# Altium schematic symbol library RES_WSKJ.SchLib: 123 symbols
Pins are listed as number, name and electrical type; pins without a type are passive.

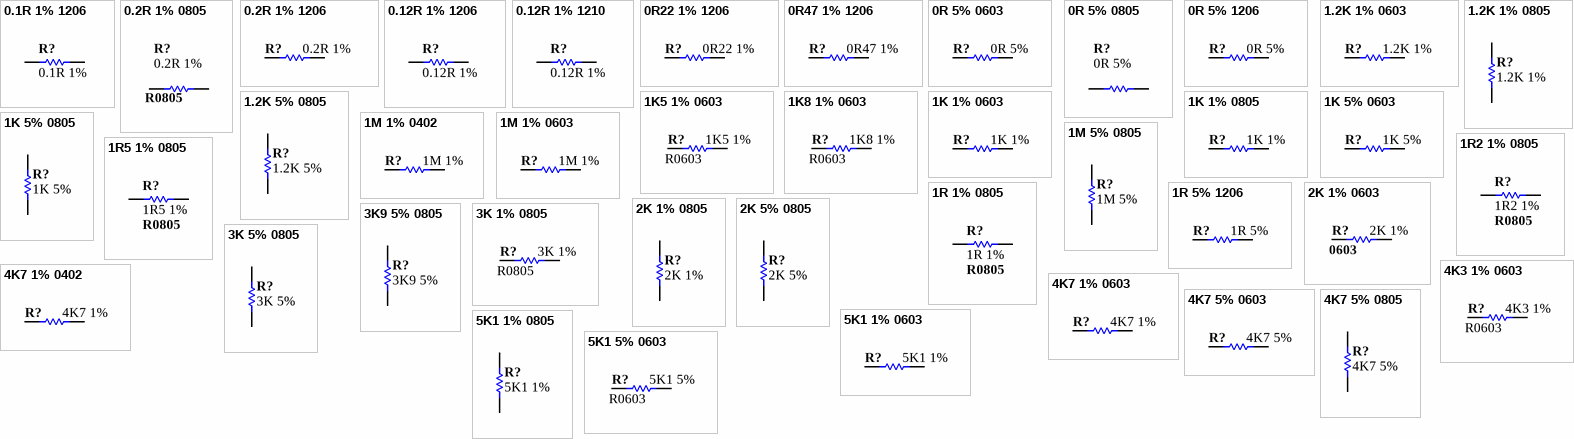
[diagram p0: symbols 0.1R 1% 1206 to 5K1 5% 0603]

## 0.1R 1% 1206
designator R?, comment 0.1R 1%
Resistor, 0.1R 1% 1206 (3216); Power Rating: 63 mW; Resistance: 0.2R; Tolerance: 5%; Category: Resistor; Mounting Technology: Surface Mount; Status: Production
footprint CR3216-1206
pins: 1, 2

## 0.2R 1% 0805
designator R?, comment 0.2R 1%  package: R0805
Resistor, 0.2R 1% 0805 (2012); Power Rating: mW; Category: Resistor; Mounting Technology: Surface Mount; Resistance: 0.2R; Status: Production; Tolerance: 1 %
footprint RESC2012-STAR
pins: 1, 2

## 0.2R 1% 1206
designator R?, comment 0.2R 1%
Resistor, 0.2R 1% 1206 (3216); Power Rating: 63 mW; Tolerance: 5%; Category: Resistor; Mounting Technology: Surface Mount; Resistance: 0.2R; Status: Production
footprint CR3216-1206
pins: 1, 2

## 0.12R 1% 1206
designator R?, comment 0.12R 1%
Resistor, 0.12R 1% 1206 (3216); Power Rating: 63 mW; Tolerance: 5%; Category: Resistor; Mounting Technology: Surface Mount; Resistance: 0.12R; Status: Production
footprint CR3216-1206
pins: 1, 2

## 0.12R 1% 1210
designator R?, comment 0.12R 1%
Resistor, 0.12R 1% 1210 (3225); Power Rating: 1/3W; Category: Resistor; Mounting Technology: Surface Mount; Resistance: 0.12R; Status: Production; Tolerance: 1%
footprint R1210
pins: 1, 2

## 0R22 1% 1206
designator R?, comment 0R22 1%
Resistor, 0R22 1% 1206 (3216); Power Rating: 63 mW; Category: Resistor; Mounting Technology: Surface Mount; Resistance: 0R22; Status: Production; Tolerance: 1%
footprint CR3216-1206
pins: 1, 2

## 0R47 1% 1206
designator R?, comment 0R47 1%
Resistor, 0R47 1% 1206 (3216); Power Rating: 63 mW; Category: Resistor; Mounting Technology: Surface Mount; Resistance: 0R47; Status: Production; Tolerance: 1%
footprint CR3216-1206
pins: 1, 2

## 0R 5% 0603
designator R?, comment 0R 5%
Resistor, 0R 5% 0603 (1608); Power Rating: 63 mW; Category: Resistor; Mounting Technology: Surface Mount; Resistance: 0R; Status: Production; Tolerance: 5 %; Package: R0603
footprint CR1608-0603
pins: 1, 2

## 0R 5% 0805
designator R?, comment 0R 5%
Resistor, 0R 5% 0805 (2012); Power Rating: mW; Category: Resistor; Mounting Technology: Surface Mount; Resistance: 0R; Status: Production; Tolerance: 5 %; package: R0805
footprint RESC2012-STAR
pins: 1, 2

## 0R 5% 1206
designator R?, comment 0R 5%
Resistor, 0R 5% 1206 (3216); Power Rating: 63 mW; Category: Resistor; Mounting Technology: Surface Mount; Resistance: 0R; Status: Production; Tolerance: 5%
footprint CR3216-1206
pins: 1, 2

## 1.2K 1% 0603
designator R?, comment 1.2K 1%
Resistor, 1.2K 1% 0603 (1608); Power Rating: 63 mW; Category: Resistor; Mounting Technology: Surface Mount; Resistance: 1.2K; Status: Production; Tolerance: 1 %
footprint CR1608-0603
pins: 1, 2

## 1.2K 1% 0805
designator R?, comment 1.2K 1%
Resistor, 1.2K 1% 0805 (2012); Power Rating: mW; Category: Resistor; Mounting Technology: Surface Mount; Resistance: 1.2K; Status: Production; Tolerance: 1 %
footprint RESC2012-STAR
pins: 1, 2

## 1.2K 5% 0805
designator R?, comment 1.2K 5%
Resistor, 1.2K 5% 0805 (2012); Power Rating: mW; Category: Resistor; Mounting Technology: Surface Mount; Resistance: 1.2K; Status: Production; Tolerance: 5 %
footprint RESC2012-STAR
pins: 1, 2

## 1K5 1% 0603
designator R?, comment 1K5 1%  Package: R0603
Resistor, 1K 51% 0603 (1608); Power Rating: 63 mW; Category: Resistor; Mounting Technology: Surface Mount; Resistance: 1K5; Status: Production; Tolerance: 1%
footprint CR1608-0603
pins: 1, 2

## 1K8 1% 0603
designator R?, comment 1K8 1%  Package: R0603
Resistor, 1K8 1% 0603 (1608); Power Rating: 63 mW; Resistance: 1.8 K; Tolerance: 15%; Category: Resistor; Mounting Technology: Surface Mount; Status: Production
footprint CR1608-0603
pins: 1, 2

## 1K 1% 0603
designator R?, comment 1K 1%
Resistor, 1K 1% 0603 (1608); Power Rating: 63 mW; Category: Resistor; Mounting Technology: Surface Mount; Resistance: 1K; Status: Production; Tolerance: 1%; Package: R0603
footprint CR1608-0603
pins: 1, 2

## 1K 1% 0805
designator R?, comment 1K 1%
Resistor, 1K 1% 0805 (2012); Power Rating: 63 mW; Tolerance: 15%; Category: Resistor; Mounting Technology: Surface Mount; Resistance: 1 K; Status: Production; Package: R0805
footprint CR2012-0805
pins: 1, 2

## 1K 5% 0603
designator R?, comment 1K 5%
Resistor, 1K 5% 0603 (1608); Power Rating: 63 mW; Category: Resistor; Mounting Technology: Surface Mount; Resistance: 1K; Status: Production; Tolerance: 5 %; Package: R0603
footprint CR1608-0603
pins: 1, 2

## 1K 5% 0805
designator R?, comment 1K 5%
Resistor, 1K 5% 0805 (2012); Power Rating: mW; Category: Resistor; Mounting Technology: Surface Mount; Resistance: 1K; Status: Production; Tolerance: 5 %
footprint RESC2012-STAR
pins: 1, 2

## 1M 1% 0402
designator R?, comment 1M 1%
Resistor, 1M 1% 0402 (1005); Power Rating: 63 mW; Category: Resistor; Mounting Technology: Surface Mount; Resistance: 1M; Status: Production; Tolerance: 1 %
footprint RESC1005-STAR
pins: 1, 2

## 1M 1% 0603
designator R?, comment 1M 1%
Resistor, 1M 1% 0603 (1608); Power Rating: 63 mW; Category: Resistor; Mounting Technology: Surface Mount; Resistance: 1M; Status: Production; Tolerance: 1 %
footprint CR1608-0603
pins: 1, 2

## 1M 5% 0805
designator R?, comment 1M 5%
Resistor, 1M 5% 0805 (2012); Power Rating: mW; Category: Resistor; Mounting Technology: Surface Mount; Resistance: 1M; Status: Production; Tolerance: 5 %
footprint RESC2012-STAR
pins: 1, 2

## 1R2 1% 0805
designator R?, comment 1R2 1%  package: R0805
Resistor, 10K 1% 0805 (2012); Power Rating: mW; Category: Resistor; Mounting Technology: Surface Mount; Resistance: 1R2; Status: Production; Tolerance: 1 %
footprint RESC2012-STAR
pins: 1, 2

## 1R5 1% 0805
designator R?, comment 1R5 1%  package: R0805
Resistor, 10K 1% 0805 (2012); Power Rating: mW; Category: Resistor; Mounting Technology: Surface Mount; Resistance: 1R5; Status: Production; Tolerance: 1 %
footprint RESC2012-STAR
pins: 1, 2

## 1R 1% 0805
designator R?, comment 1R 1%  package: R0805
Resistor, 10K 1% 0805 (2012); Power Rating: mW; Category: Resistor; Mounting Technology: Surface Mount; Resistance: 1R; Status: Production; Tolerance: 1 %
footprint RESC2012-STAR
pins: 1, 2

## 1R 5% 1206
designator R?, comment 1R 5%
Resistor, 1R 5% 1206 (3216); Power Rating: 63 mW; Category: Resistor; Mounting Technology: Surface Mount; Resistance: 1R; Status: Production; Tolerance: 5%
footprint CR3216-1206
pins: 1, 2

## 2K 1% 0603
designator R?, comment 2K 1%  package: 0603
Resistor, 2K 1% 0603 (1608); Power Rating: 63 mW; Category: Resistor; Mounting Technology: Surface Mount; Resistance: 2 K; Status: Production; Tolerance: 1 %
footprint CR1608-0603
pins: 1, 2

## 2K 1% 0805
designator R?, comment 2K 1%
Resistor, 2K 1% 0805 (2012); Power Rating: mW; Category: Resistor; Mounting Technology: Surface Mount; Resistance: 2K; Status: Production; Tolerance: 1 %
footprint RESC2012-STAR
pins: 1, 2

## 2K 5% 0805
designator R?, comment 2K 5%
Resistor, 2K 5% 0805 (2012); Power Rating: mW; Category: Resistor; Mounting Technology: Surface Mount; Resistance: 2K; Status: Production; Tolerance: 5 %
footprint RESC2012-STAR
pins: 1, 2

## 3K9 5% 0805
designator R?, comment 3K9 5%
Resistor, 3K9 5% 0805 (2012); Power Rating: mW; Resistance: 3.9K; Category: Resistor; Mounting Technology: Surface Mount; Status: Production; Tolerance: 5 %
footprint RESC2012-STAR
pins: 1, 2

## 3K 1% 0805
designator R?, comment 3K 1%  Package: R0805
Resistor, 3K 1% 0805 (2012); Power Rating: 63 mW; Tolerance: 15%; Category: Resistor; Mounting Technology: Surface Mount; Resistance: 3K; Status: Production
footprint CR2012-0805
pins: 1, 2

## 3K 5% 0805
designator R?, comment 3K 5%
Resistor, 3K 5% 0805 (2012); Power Rating: mW; Category: Resistor; Mounting Technology: Surface Mount; Resistance: 3K; Status: Production; Tolerance: 5 %
footprint RESC2012-STAR
pins: 1, 2

## 4K3 1% 0603
designator R?, comment 4K3 1%  Package: R0603
Resistor, 4K3 1% 0603 (1608); Power Rating: 63 mW; Category: Resistor; Mounting Technology: Surface Mount; Resistance: 4K3; Status: Production; Tolerance: 1%
footprint CR1608-0603
pins: 1, 2

## 4K7 1% 0402
designator R?, comment 4K7 1%
Resistor, 4K7 1% 0402 (1005); Power Rating: 63 mW; Resistance: 4.7 K; Category: Resistor; Mounting Technology: Surface Mount; Status: Production; Tolerance: 1 %
footprint RESC1005-STAR
pins: 1, 2

## 4K7 1% 0603
designator R?, comment 4K7 1%
Resistor, 4K7 1% 0603 (1608); Power Rating: 63 mW; Resistance: 4.7 K; Category: Resistor; Mounting Technology: Surface Mount; Status: Production; Tolerance: 1 %
footprint CR1608-0603
pins: 1, 2

## 4K7 5% 0603
designator R?, comment 4K7 5%
Resistor, 4K7 5% 0603 (1608); Power Rating: 63 mW; Resistance: 4.7 K; Tolerance: 1 %; Category: Resistor; Mounting Technology: Surface Mount; Status: Production
footprint CR1608-0603
pins: 1, 2

## 4K7 5% 0805
designator R?, comment 4K7 5%
Resistor, 4.7K 5% 0805 (2012); Power Rating: mW; Category: Resistor; Mounting Technology: Surface Mount; Resistance: 4.7K; Status: Production; Tolerance: 5 %
footprint RESC2012-STAR
pins: 1, 2

## 5K1 1% 0603
designator R?, comment 5K1 1%
Resistor, 5K1 1% 0603 (1608); Power Rating: 63 mW; Tolerance: 51%; Category: Resistor; Mounting Technology: Surface Mount; Resistance: 5K1; Status: Production; Package: R0603
footprint CR1608-0603
pins: 1, 2

## 5K1 1% 0805
designator R?, comment 5K1 1%
Resistor, 5.1K 1% 0805 (2012); Power Rating: mW; Tolerance: 5 %; Category: Resistor; Mounting Technology: Surface Mount; Resistance: 5.1K; Status: Production
footprint RESC2012-STAR
pins: 1, 2

## 5K1 5% 0603
designator R?, comment 5K1 5%  Package: R0603
Resistor, 5K1 5% 0603 (1608); Power Rating: 63 mW; Category: Resistor; Mounting Technology: Surface Mount; Resistance: 5K1; Status: Production; Tolerance: 5 %
footprint CR1608-0603
pins: 1, 2

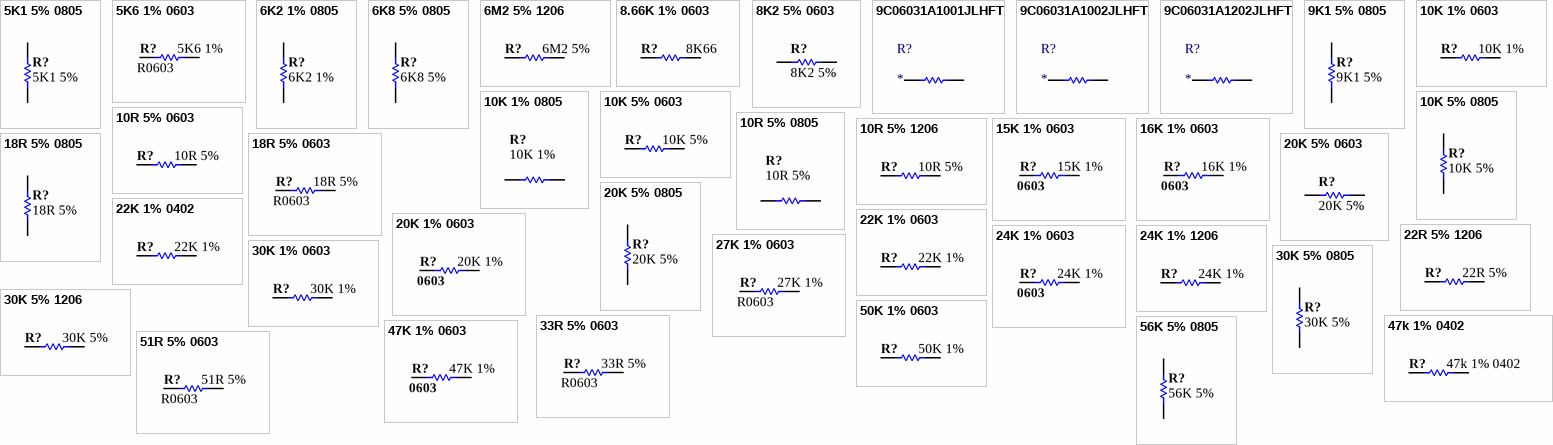
[diagram p1: symbols 5K1 5% 0805 to 56K 5% 0805]

## 5K1 5% 0805
designator R?, comment 5K1 5%
Resistor, 5K1 5% 0805 (2012); Power Rating: mW; Resistance: 5.1K; Category: Resistor; Mounting Technology: Surface Mount; Status: Production; Tolerance: 5 %
footprint RESC2012-STAR
pins: 1, 2

## 5K6 1% 0603
designator R?, comment 5K6 1%  Package: R0603
Resistor, 5K6 1% 0603 (1608); Power Rating: 63 mW; Resistance: 5.6K; Tolerance: 15%; Category: Resistor; Mounting Technology: Surface Mount; Status: Production
footprint CR1608-0603
pins: 1, 2

## 6K2 1% 0805
designator R?, comment 6K2 1%
Resistor, 5K2 1% 0805 (2012); Power Rating: mW; Resistance: 6.2K; Tolerance: 5 %; Category: Resistor; Mounting Technology: Surface Mount; Status: Production
footprint RESC2012-STAR
pins: 1, 2

## 6K8 5% 0805
designator R?, comment 6K8 5%
Resistor, 6K8 5% 0805 (2012); Power Rating: mW; Resistance: 6.8K; Category: Resistor; Mounting Technology: Surface Mount; Status: Production; Tolerance: 5 %
footprint RESC2012-STAR
pins: 1, 2

## 6M2 5% 1206
designator R?, comment 6M2 5%
Resistor, 6M2 5% 1206 (3216); Power Rating: 63 mW; Resistance: 6.2M; Category: Resistor; Mounting Technology: Surface Mount; Status: Production; Tolerance: 5%
footprint CR3216-1206
pins: 1, 2

## 8.66K 1% 0603
designator R?, comment Resistance: 8K66  (hidden comment: 8.66K 1%)
Resistor, 1K 1% 0603 (1608); Power Rating: 63 mW; Category: Resistor; Mounting Technology: Surface Mount; Status: Production; Tolerance: 1%; Package: R0603
footprint CR1608-0603
pins: 1, 2

## 8K2 5% 0603
designator R?, comment 8K2 5%
Resistor, 8K2 5% 0603 (1608); Power Rating: 63 mW; Category: Resistor; Mounting Technology: Surface Mount; Resistance: 8K2; Status: Production; Tolerance: 5 %
footprint CR1608-0603
pins: 1, 2

## 9C06031A1001JLHFT
designator R?
RES SMD 1K OHM 5% 1/10W 0603
footprint CR1608-0603
pins: 1, 2

## 9C06031A1002JLHFT
designator R?
RES SMD 10K OHM 5% 1/10W 0603
footprint CR1608-0603
pins: 1, 2

## 9C06031A1202JLHFT
designator R?
RES SMD 12K OHM 5% 1/10W 0603
footprint CR1608-0603
pins: 1, 2

## 9K1 5% 0805
designator R?, comment 9K1 5%
Resistor, 9K1 5% 0805 (2012); Power Rating: mW; Resistance: 9.1K; Category: Resistor; Mounting Technology: Surface Mount; Status: Production; Tolerance: 5 %
footprint RESC2012-STAR
pins: 1, 2

## 10K 1% 0603
designator R?, comment 10K 1%
Resistor, 10K 1% 0603 (1608); Power Rating: 63 mW; Tolerance: 15%; Category: Resistor; Mounting Technology: Surface Mount; Resistance: 10 K; Status: Production; Package: R0603
footprint CR1608-0603
pins: 1, 2

## 10K 1% 0805
designator R?, comment 10K 1%
Resistor, 10K 1% 0805 (2012); Power Rating: mW; Category: Resistor; Mounting Technology: Surface Mount; Resistance: 10K; Status: Production; Tolerance: 1 %; package: R0805
footprint RESC2012-STAR
pins: 1, 2

## 10K 5% 0603
designator R?, comment 10K 5%
Resistor, 10K 5% 0603 (1608); Power Rating: 63 mW; Tolerance: 15%; Category: Resistor; Mounting Technology: Surface Mount; Resistance: 10 K; Status: Production; Package: R0603
footprint CR1608-0603
pins: 1, 2

## 10K 5% 0805
designator R?, comment 10K 5%
Resistor, 10K 5% 0805 (2012); Power Rating: mW; Tolerance: 15%; Category: Resistor; Mounting Technology: Surface Mount; Resistance: 10K; Status: Production
footprint RESC2012-STAR
pins: 1, 2

## 10R 5% 0603
designator R?, comment 10R 5%
Resistor, 0R 5% 0603 (1608); Power Rating: 63 mW; Category: Resistor; Mounting Technology: Surface Mount; Resistance: 10R; Status: Production; Tolerance: 5 %; Package: R0603
footprint CR1608-0603
pins: 1, 2

## 10R 5% 0805
designator R?, comment 10R 5%
Resistor, 10R 5% 0805 (2012); Power Rating: mW; Resistance: 10K; Category: Resistor; Mounting Technology: Surface Mount; Status: Production; Tolerance: 5 %; package: R0805
footprint RESC2012-STAR
pins: 1, 2

## 10R 5% 1206
designator R?, comment 10R 5%
Resistor, 10R 5% 1206 (3216); Power Rating: 63 mW; Category: Resistor; Mounting Technology: Surface Mount; Resistance: 10R; Status: Production; Tolerance: 5%
footprint CR3216-1206
pins: 1, 2

## 15K 1% 0603
designator R?, comment 15K 1%  package: 0603
Resistor, 15K 1% 0603 (1608); Power Rating: 63 mW; Category: Resistor; Mounting Technology: Surface Mount; Resistance: 15 K; Status: Production; Tolerance: 1 %
footprint CR1608-0603
pins: 1, 2

## 16K 1% 0603
designator R?, comment 16K 1%  package: 0603
Resistor, 16K 1% 0603 (1608); Power Rating: 63 mW; Category: Resistor; Mounting Technology: Surface Mount; Resistance: 16K; Status: Production; Tolerance: 1 %
footprint CR1608-0603
pins: 1, 2

## 18R 5% 0603
designator R?, comment 18R 5%  Package: R0603
Resistor, 18R 5% 0603 (1608); Power Rating: 63 mW; Category: Resistor; Mounting Technology: Surface Mount; Resistance: 18R; Status: Production; Tolerance: 5 %
footprint CR1608-0603
pins: 1, 2

## 18R 5% 0805
designator R?, comment 18R 5%
Resistor, 18R 5% 0805 (2012); Power Rating: mW; Category: Resistor; Mounting Technology: Surface Mount; Resistance: 18R; Status: Production; Tolerance: 5 %
footprint RESC2012-STAR
pins: 1, 2

## 20K 1% 0603
designator R?, comment 20K 1%  package: 0603
Resistor, 20K 1% 0603 (1608); Power Rating: 63 mW; Category: Resistor; Mounting Technology: Surface Mount; Resistance: 20K; Status: Production; Tolerance: 1 %
footprint CR1608-0603
pins: 1, 2

## 20K 5% 0603
designator R?, comment 20K 5%
Resistor, 20K 5% 0603 (1608); Power Rating: 63 mW; Category: Resistor; Mounting Technology: Surface Mount; Resistance: 20K; Status: Production; Tolerance: 5 %
footprint CR1608-0603
pins: 1, 2

## 20K 5% 0805
designator R?, comment 20K 5%
Resistor, 20K 5% 0805 (2012); Power Rating: mW; Category: Resistor; Mounting Technology: Surface Mount; Resistance: 20K; Status: Production; Tolerance: 5 %
footprint RESC2012-STAR
pins: 1, 2

## 22K 1% 0402
designator R?, comment 22K 1%
Resistor, 22K 1% 0402 (1005); Power Rating: 63 mW; Category: Resistor; Mounting Technology: Surface Mount; Resistance: 22K; Status: Production; Tolerance: 1 %
footprint RESC1005-STAR
pins: 1, 2

## 22K 1% 0603
designator R?, comment 22K 1%
Resistor, 22K 1% 0603 (1608); Power Rating: 63 mW; Category: Resistor; Mounting Technology: Surface Mount; Resistance: 22K; Status: Production; Tolerance: 1 %
footprint CR1608-0603
pins: 1, 2

## 22R 5% 1206
designator R?, comment 22R 5%
Resistor, 22R 5% 1206 (3216); Power Rating: 63 mW; Resistance: 270R; Category: Resistor; Mounting Technology: Surface Mount; Status: Production; Tolerance: 5%
footprint CR3216-1206
pins: 1, 2

## 24K 1% 0603
designator R?, comment 24K 1%  package: 0603
Resistor, 24K 1% 0603 (1608); Power Rating: 63 mW; Category: Resistor; Mounting Technology: Surface Mount; Resistance: 24K; Status: Production; Tolerance: 1 %
footprint CR1608-0603
pins: 1, 2

## 24K 1% 1206
designator R?, comment 24K 1%
Resistor, 24K 1% 1206 (3216); Power Rating: 63 mW; Category: Resistor; Mounting Technology: Surface Mount; Resistance: 24K; Status: Production; Tolerance: 1%
footprint CR3216-1206
pins: 1, 2

## 27K 1% 0603
designator R?, comment 27K 1%  Package: R0603
Resistor, 27K 1% 0603 (1608); Power Rating: 63 mW; Category: Resistor; Mounting Technology: Surface Mount; Resistance: 27K; Status: Production; Tolerance: 1%
footprint CR1608-0603
pins: 1, 2

## 30K 1% 0603
designator R?, comment 30K 1%
Resistor, 30K 1% 0603 (1608); Power Rating: 63 mW; Category: Resistor; Mounting Technology: Surface Mount; Resistance: 30K; Status: Production; Tolerance: 1%; Package: R0603
footprint CR1608-0603
pins: 1, 2

## 30K 5% 0805
designator R?, comment 30K 5%
Resistor, 30K 5% 0805 (2012); Power Rating: mW; Category: Resistor; Mounting Technology: Surface Mount; Resistance: 30K; Status: Production; Tolerance: 5 %
footprint RESC2012-STAR
pins: 1, 2

## 30K 5% 1206
designator R?, comment 30K 5%
Resistor, 30K 5% 1206 (3216); Power Rating: 63 mW; Category: Resistor; Mounting Technology: Surface Mount; Resistance: 30K; Status: Production; Tolerance: 5%
footprint CR3216-1206
pins: 1, 2

## 33R 5% 0603
designator R?, comment 33R 5%  Package: R0603
Resistor, 33R 5% 0603 (1608); Power Rating: 63 mW; Category: Resistor; Mounting Technology: Surface Mount; Resistance: 33R; Status: Production; Tolerance: 5 %
footprint CR1608-0603
pins: 1, 2

## 47k 1% 0402
designator R?
Resistor, 1M 1% 0402 (1005); Power Rating: 63 mW; Category: Resistor; Mounting Technology: Surface Mount; Resistance: 47K; Status: Production; Tolerance: 1 %
footprint RESC1005-STAR
pins: 1, 2

## 47K 1% 0603
designator R?, comment 47K 1%  package: 0603
Resistor, 47K 1% 0603 (1608); Power Rating: 63 mW; Category: Resistor; Mounting Technology: Surface Mount; Resistance: 47K; Status: Production; Tolerance: 1 %
footprint CR1608-0603
pins: 1, 2

## 50K 1% 0603
designator R?, comment 50K 1%
Resistor, 50K 1% 0603 (1608); Power Rating: 63 mW; Category: Resistor; Mounting Technology: Surface Mount; Resistance: 50K; Status: Production; Tolerance: 1%; Package: R0603
footprint CR1608-0603
pins: 1, 2

## 51R 5% 0603
designator R?, comment 51R 5%  Package: R0603
Resistor, 51R 5% 0603 (1608); Power Rating: 63 mW; Category: Resistor; Mounting Technology: Surface Mount; Resistance: 51R; Status: Production; Tolerance: 5 %
footprint CR1608-0603
pins: 1, 2

## 56K 5% 0805
designator R?, comment 56K 5%
Resistor, 56K 5% 0805 (2012); Power Rating: mW; Category: Resistor; Mounting Technology: Surface Mount; Resistance: 56K; Status: Production; Tolerance: 5 %
footprint RESC2012-STAR
pins: 1, 2

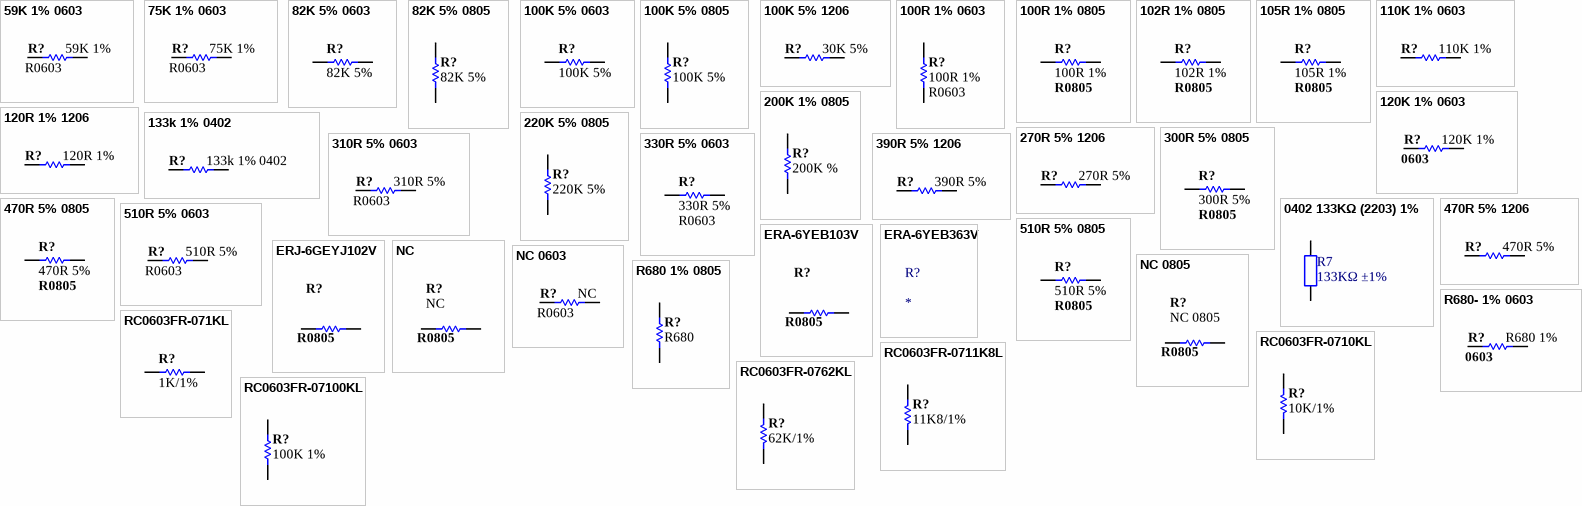
[diagram p2: symbols 59K 1% 0603 to RC0603FR-07100KL]

## 59K 1% 0603
designator R?, comment 59K 1%  Package: R0603
Resistor, 59K 1% 0603 (1608); Power Rating: 63 mW; Category: Resistor; Mounting Technology: Surface Mount; Resistance: 59K; Status: Production; Tolerance: 1%
footprint CR1608-0603
pins: 1, 2

## 75K 1% 0603
designator R?, comment 75K 1%  Package: R0603
Resistor, 75K 1% 0603 (1608); Power Rating: 63 mW; Category: Resistor; Mounting Technology: Surface Mount; Resistance: 75K; Status: Production; Tolerance: 1%
footprint CR1608-0603
pins: 1, 2

## 82K 5% 0603
designator R?, comment 82K 5%
Resistor, 82K 5% 0603 (1608); Power Rating: 63 mW; Category: Resistor; Mounting Technology: Surface Mount; Resistance: 82K; Status: Production; Tolerance: 5 %
footprint CR1608-0603
pins: 1, 2

## 82K 5% 0805
designator R?, comment 82K 5%
Resistor, 82K 5% 0805 (2012); Power Rating: mW; Category: Resistor; Mounting Technology: Surface Mount; Resistance: 82K; Status: Production; Tolerance: 5 %
footprint RESC2012-STAR
pins: 1, 2

## 100K 5% 0603
designator R?, comment 100K 5%
Resistor, 100K 5% 0603 (1608); Power Rating: 63 mW; Category: Resistor; Mounting Technology: Surface Mount; Resistance: 100K; Status: Production; Tolerance: 5 %
footprint CR1608-0603
pins: 1, 2

## 100K 5% 0805
designator R?, comment 100K 5%
Resistor, 100K 5% 0805 (2012); Power Rating: mW; Category: Resistor; Mounting Technology: Surface Mount; Resistance: 100K; Status: Production; Tolerance: 5 %
footprint RESC2012-STAR
pins: 1, 2

## 100K 5% 1206
designator R?, comment 30K 5%
Resistor, 100K 5% 1206 (3216); Power Rating: 63 mW; Category: Resistor; Mounting Technology: Surface Mount; Resistance: 100K; Status: Production; Tolerance: 5%
footprint CR3216-1206
pins: 1, 2

## 100R 1% 0603
designator R?, comment 100R 1%  Package: R0603
Resistor, 100R 1% 0603 (1608); Power Rating: 63 mW; Category: Resistor; Mounting Technology: Surface Mount; Resistance: 100R; Status: Production; Tolerance: 1%
footprint CR1608-0603
pins: 1, 2

## 100R 1% 0805
designator R?, comment 100R 1%  package: R0805
Resistor, 10K 1% 0805 (2012); Power Rating: mW; Category: Resistor; Mounting Technology: Surface Mount; Resistance: 100R; Status: Production; Tolerance: 1 %
footprint RESC2012-STAR
pins: 1, 2

## 102R 1% 0805
designator R?, comment 102R 1%  package: R0805
Resistor, 10K 1% 0805 (2012); Power Rating: mW; Category: Resistor; Mounting Technology: Surface Mount; Resistance: 102R; Status: Production; Tolerance: 1 %
footprint RESC2012-STAR
pins: 1, 2

## 105R 1% 0805
designator R?, comment 105R 1%  package: R0805
Resistor, 10K 1% 0805 (2012); Power Rating: mW; Category: Resistor; Mounting Technology: Surface Mount; Resistance: 105R; Status: Production; Tolerance: 1 %
footprint RESC2012-STAR
pins: 1, 2

## 110K 1% 0603
designator R?, comment 110K 1%
Resistor, 110K 1% 0603 (1608); Power Rating: 63 mW; Category: Resistor; Mounting Technology: Surface Mount; Resistance: 110K; Status: Production; Tolerance: 1%; Package: R0603
footprint CR1608-0603
pins: 1, 2

## 120K 1% 0603
designator R?, comment 120K 1%  package: 0603
Resistor, 120K 1% 0603 (1608); Power Rating: 63 mW; Category: Resistor; Mounting Technology: Surface Mount; Resistance: 120 K; Status: Production; Tolerance: 1 %
footprint CR1608-0603
pins: 1, 2

## 120R 1% 1206
designator R?, comment 120R 1%
Resistor, 120R 1% 1206 (3216); Power Rating: 63 mW; Category: Resistor; Mounting Technology: Surface Mount; Resistance: 120R; Status: Production; Tolerance: 1%
footprint CR3216-1206
pins: 1, 2

## 133k 1% 0402
designator R?
Resistor, 1M 1% 0402 (1005); Power Rating: 63 mW; Category: Resistor; Mounting Technology: Surface Mount; Resistance: 1M; Status: Production; Tolerance: 1 %
footprint RESC1005-STAR
pins: 1, 2

## 200K 1% 0805
designator R?, comment 200K %
Resistor, 200K 1% 0805 (2012); Power Rating: mW; Category: Resistor; Mounting Technology: Surface Mount; Resistance: 200K; Status: Production; Tolerance: 1%
footprint RESC2012-STAR
pins: 1, 2

## 220K 5% 0805
designator R?, comment 220K 5%
Resistor, 220K 5% 0805 (2012); Power Rating: mW; Category: Resistor; Mounting Technology: Surface Mount; Resistance: 220K; Status: Production; Tolerance: 5 %
footprint RESC2012-STAR
pins: 1, 2

## 270R 5% 1206
designator R?, comment 270R 5%
Resistor, 270R 5% 1206 (3216); Power Rating: 63 mW; Category: Resistor; Mounting Technology: Surface Mount; Resistance: 270R; Status: Production; Tolerance: 5%
footprint CR3216-1206
pins: 1, 2

## 300R 5% 0805
designator R?, comment 300R 5%  package: R0805
Resistor, 300R 5% 0805 (2012); Power Rating: mW; Category: Resistor; Mounting Technology: Surface Mount; Resistance: 300R; Status: Production; Tolerance: 5%
footprint RESC2012-STAR
pins: 1, 2

## 310R 5% 0603
designator R?, comment 310R 5%  Package: R0603
Resistor, 310R 5% 0603 (1608); Power Rating: 63 mW; Category: Resistor; Mounting Technology: Surface Mount; Resistance: 310R; Status: Production; Tolerance: 5 %
footprint CR1608-0603
pins: 1, 2

## 330R 5% 0603
designator R?, comment 330R 5%  Package: R0603
Resistor, 330R 5% 0603 (1608); Power Rating: 63 mW; Category: Resistor; Mounting Technology: Surface Mount; Resistance: 330R; Status: Production; Tolerance: 5 %
footprint CR1608-0603
pins: 1, 2

## 390R 5% 1206
designator R?, comment 390R 5%
Resistor, 390R 5% 1206 (3216); Power Rating: 63 mW; Category: Resistor; Mounting Technology: Surface Mount; Resistance: 390R; Status: Production; Tolerance: 5%
footprint CR3216-1206
pins: 1, 2

## 0402 133KΩ (2203) 1%
designator R7, comment 133KΩ ±1%
贴片电阻; ComponentLink1Description: 供应商链接; ComponentLink1URL: http://www.szlcsc.com/product/details_26510.html; Package: 0402; Supplier: LC; SuppliersPartNumber: C25767
footprint 0402_R
pins: 1, 2

## 470R 5% 0805
designator R?, comment 470R 5%  package: R0805
Resistor, 470R 5% 0805 (2012); Power Rating: mW; Category: Resistor; Mounting Technology: Surface Mount; Resistance: 470R; Status: Production; Tolerance: 5%
footprint RESC2012-STAR
pins: 1, 2

## 470R 5% 1206
designator R?, comment 470R 5%
Resistor, 470R 5% 1206 (3216); Power Rating: 63 mW; Category: Resistor; Mounting Technology: Surface Mount; Resistance: 470R; Status: Production; Tolerance: 5%
footprint CR3216-1206
pins: 1, 2

## 510R 5% 0603
designator R?, comment 510R 5%  Package: R0603
Resistor, 510R 5% 0603 (1608); Power Rating: 63 mW; Category: Resistor; Mounting Technology: Surface Mount; Resistance: 510R; Status: Production; Tolerance: 5 %
footprint CR1608-0603
pins: 1, 2

## 510R 5% 0805
designator R?, comment 510R 5%  package: R0805
Resistor, 510R 5% 0805 (2012); Power Rating: mW; Category: Resistor; Mounting Technology: Surface Mount; Resistance: 510R; Status: Production; Tolerance: 5%
footprint RESC2012-STAR
pins: 1, 2

## ERA-6YEB103V
designator R?  package: R0805
RES SMD 10K OHM 0.1% 1/8W 0805; Power Rating: mW; Resistance: 0R; Tolerance: 5 %; Category: Resistor; Mounting Technology: Surface Mount; Status: Production
footprint RESC2012-STAR
pins: 1, 2

## ERA-6YEB363V
designator R?
RES SMD 36K OHM 0.1% 1/8W 0805

## ERJ-6GEYJ102V
designator R?, comment package: R0805  (hidden comment: 1K 5%)
RES SMD 1K OHM 5% 1/8W 0805; Power Rating: mW; Resistance: 0.2R; Tolerance: 1 %; 制造商: Panasonic Electronic Components; 制造商零件编号: ERJ-6GEYJ102V; Category: Resistor; Mounting Technology: Surface Mount; Status: Production
footprint RESC2012X50
pins: 1, 2

## NC
designator R?  package: R0805
Resistor, 10R 5% 0805 (2012); Power Rating: mW; Resistance: 10K; Category: Resistor; Mounting Technology: Surface Mount; Status: Production; Tolerance: 5 %
footprint RESC2012-STAR
pins: 1, 2

## NC 0603
designator R?, comment NC  Package: R0603
Resistor, NC 0603 (1608); Power Rating: 63 mW; Resistance: 0R; Tolerance: 5 %; Category: Resistor; Mounting Technology: Surface Mount; Status: Production
footprint CR1608-0603
pins: 1, 2

## NC 0805
designator R?  package: R0805
Resistor, NC 0805 (2012); Power Rating: mW; Resistance: 0R; Tolerance: 5 %; Category: Resistor; Mounting Technology: Surface Mount; Status: Production
footprint RESC2012-STAR
pins: 1, 2

## R680 1% 0805
designator R?, comment R680
Resistor, R680 1% 0805 (2012); Power Rating: mW; Resistance: 0.68; Category: Resistor; Mounting Technology: Surface Mount; Status: Production; Tolerance: 1%
footprint RESC2012-STAR
pins: 1, 2

## R680- 1% 0603
designator R?, comment R680 1%  package: 0603
Resistor, R680 1% 0603 (1608); Power Rating: 63 mW; Resistance: 0.68; Category: Resistor; Mounting Technology: Surface Mount; Status: Production; Tolerance: 1 %
footprint CR1608-0603
pins: 1, 2

## RC0603FR-071KL
designator R?, comment 1K/1%
厚膜电阻器 - SMD 1K OHM 1%; Power Rating: 63 mW; Resistance: 100K; Tolerance: 5 %; Category: Resistor; Mounting Technology: Surface Mount; Status: Production
footprint RES_0603
pins: 1, 2

## RC0603FR-0710KL
designator R?, comment 10K/1%
厚膜电阻器 - SMD 10K OHM 1%; Power Rating: 63 mW; Resistance: 100K; Tolerance: 5 %; Category: Resistor; Mounting Technology: Surface Mount; Status: Production
footprint RES_0603
pins: 1, 2

## RC0603FR-0711K8L
designator R?, comment 11K8/1%
厚膜电阻器 - SMD 11.8K OHM 1%; Power Rating: 63 mW; Tolerance: 5 %; Category: Resistor; Mounting Technology: Surface Mount; Resistance: 11.8K; Status: Production
footprint RES_0603
pins: 1, 2

## RC0603FR-0762KL
designator R?, comment 62K/1%
厚膜电阻器 - SMD 62K OHM 1%; Power Rating: 63 mW; Category: Resistor; Mounting Technology: Surface Mount; Resistance: 62K; Status: Production; Tolerance: 1 %
footprint RES_0603
pins: 1, 2

## RC0603FR-07100KL
designator R?, comment 100K 1%
Resistor, 100K 1% 0603 (1608); Power Rating: 63 mW; Tolerance: 5 %; Category: Resistor; Mounting Technology: Surface Mount; Resistance: 100K; Status: Production
footprint RES_0603
pins: 1, 2

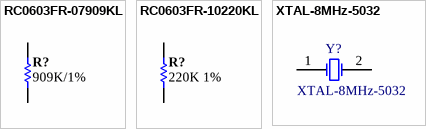
[diagram p3: symbols RC0603FR-07909KL to XTAL-8MHz-5032]

## RC0603FR-07909KL
designator R?, comment 909K/1%
厚膜电阻器 - SMD 909K OHM 1%; Power Rating: 63 mW; Resistance: 100K; Tolerance: 5 %; Category: Resistor; Mounting Technology: Surface Mount; Status: Production
footprint RES_0603
pins: 1, 2

## RC0603FR-10220KL
designator R?, comment 220K 1%
厚膜电阻器 - SMD 220K OHM 1%; Power Rating: 63 mW; Resistance: 100K; Tolerance: 5 %; Category: Resistor; Mounting Technology: Surface Mount; Status: Production
footprint RES_0603
pins: 1, 2

## XTAL-8MHz-5032
designator Y?
Crystal Oscillator; Published: 8-Jun-2000; LatestRevisionDate: 17-Jul-2002; LatestRevisionNote: Re-released for DXP Platform.; PackageReference: R38; Publisher: Altium Limited
simulation model XTAL (Spice Subcircuit)
footprint XTAL_5032 (Molded Capacitor, 2-Leads, Body 5.0x3.2mm, IPC Medium Density)
pins: 1 OSC1, 2 OSC2